# EAGLE library part 75LVDM977 (library SCSI)
SCSI Transceiver SE/LVD (Dual mode)
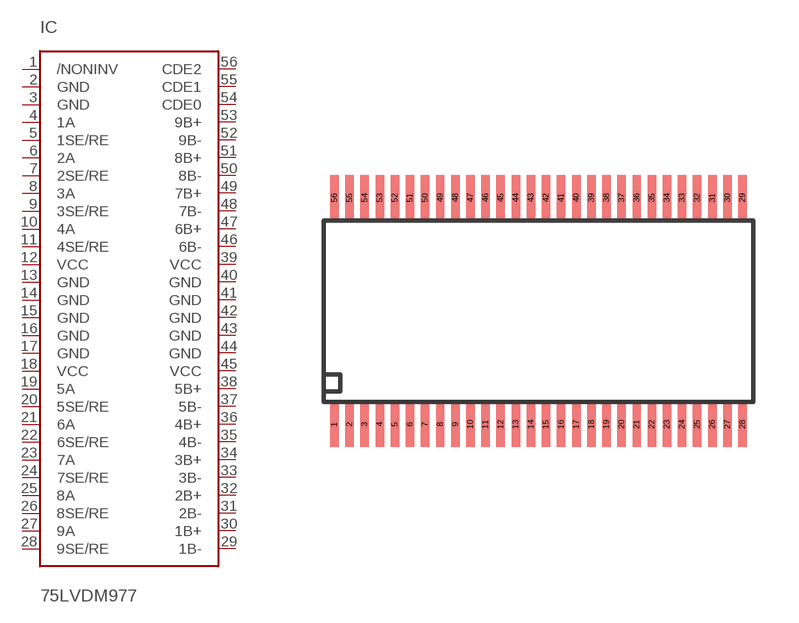
[diagram p0: symbol with the pads of TSSOP-56; footprint TSSOP-56]

Designator prefix IC

## 75LVDM977  [TSSOP-56]
1  /NONINV  in
2  GND  pwr
3  GND  pwr
4  1A
5  1SE/RE  in
6  2A
7  2SE/RE  in
8  3A
9  3SE/RE  in
10  4A
11  4SE/RE  in
12  VCC  pwr
13  GND  pwr
14  GND  pwr
15  GND  pwr
16  GND  pwr
17  GND  pwr
18  VCC  pwr
19  5A
20  5SE/RE  in
21  6A
22  6SE/RE  in
23  7A
24  7SE/RE  in
25  8A
26  8SE/RE  in
27  9A
28  9SE/RE  in
29  1B-
30  1B+
31  2B-
32  2B+
33  3B-
34  3B+
35  4B-
36  4B+
37  5B-
38  5B+
39  VCC  pwr
40  GND  pwr
41  GND  pwr
42  GND  pwr
43  GND  pwr
44  GND  pwr
45  VCC  pwr
46  6B-
47  6B+
48  7B-
49  7B+
50  8B-
51  8B+
52  9B-
53  9B+
54  CDE0  in
55  CDE1  in
56  CDE2  in

## Footprint TSSOP-56 (pad centres in mm)
Thin Shrinked Small Outline Package 56Pin 0.5mm Pitch
smd 0.28 x 1.5: 1 0,0.3; 2 0.5,0.3; 3 1,0.3; 4 1.5,0.3; 5 2,0.3; 6 2.5,0.3; 7 3,0.3; 8 3.5,0.3; 9 4,0.3; 10 4.5,0.3; 11 5,0.3; 12 5.5,0.3; 13 6,0.3; 14 6.5,0.3; 15 7,0.3; 16 7.5,0.3; 17 8,0.3; 18 8.5,0.3; 19 9,0.3; 20 9.5,0.3; 21 10,0.3; 22 10.5,0.3; 23 11,0.3; 24 11.5,0.3; 25 12,0.3; 26 12.5,0.3; 27 13,0.3; 28 13.5,0.3; 29 13.5,7.8; 30 13,7.8; 31 12.5,7.8; 32 12,7.8; 33 11.5,7.8; 34 11,7.8; 35 10.5,7.8; 36 10,7.8; 37 9.5,7.8; 38 9,7.8; 39 8.5,7.8; 40 8,7.8; 41 7.5,7.8; 42 7,7.8; 43 6.5,7.8; 44 6,7.8; 45 5.5,7.8; 46 5,7.8; 47 4.5,7.8; 48 4,7.8; 49 3.5,7.8; 50 3,7.8; 51 2.5,7.8; 52 2,7.8; 53 1.5,7.8; 54 1,7.8; 55 0.5,7.8; 56 0,7.8